# EAGLE library part 74164-? (library ic-74)
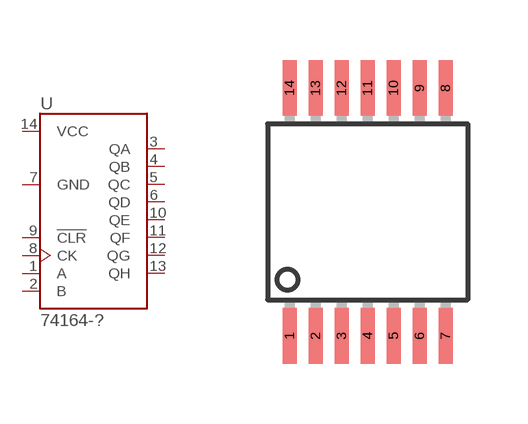
[diagram p1: symbol with the pads of TSSOP14; footprint TSSOP14]

Designator prefix U

## 74164-TSSOP  [TSSOP14]
1  A
2  B
3  QA
4  QB
5  QC
6  QD
7  GND
8  CK
9  !CLR
10  QE
11  QF
12  QG
13  QH
14  VCC

## Footprint TSSOP14 (pad centres in mm)
smd 0.35 x 1.4: 1 -1.95,-3.1; 2 -1.3,-3.1; 3 -0.65,-3.1; 4 0,-3.1; 5 0.65,-3.1; 6 1.3,-3.1; 7 1.95,-3.1; 8 1.95,3.1; 9 1.3,3.1; 10 0.65,3.1; 11 0,3.1; 12 -0.65,3.1; 13 -1.3,3.1; 14 -1.95,3.1